# Altium footprint library BarelangRobotics.PcbLib: 67 footprints (part 1 of 5)
Each footprint in its own frame and in the unit in brackets; x right, y up, seen from the top. Pads: shape width x height; smd on the part's side, far side on the other; paste and mask are expansions set on the pad; w line width, h text height; cw(c..) or ccw(c..) is an arc to the next point about the centre after c.
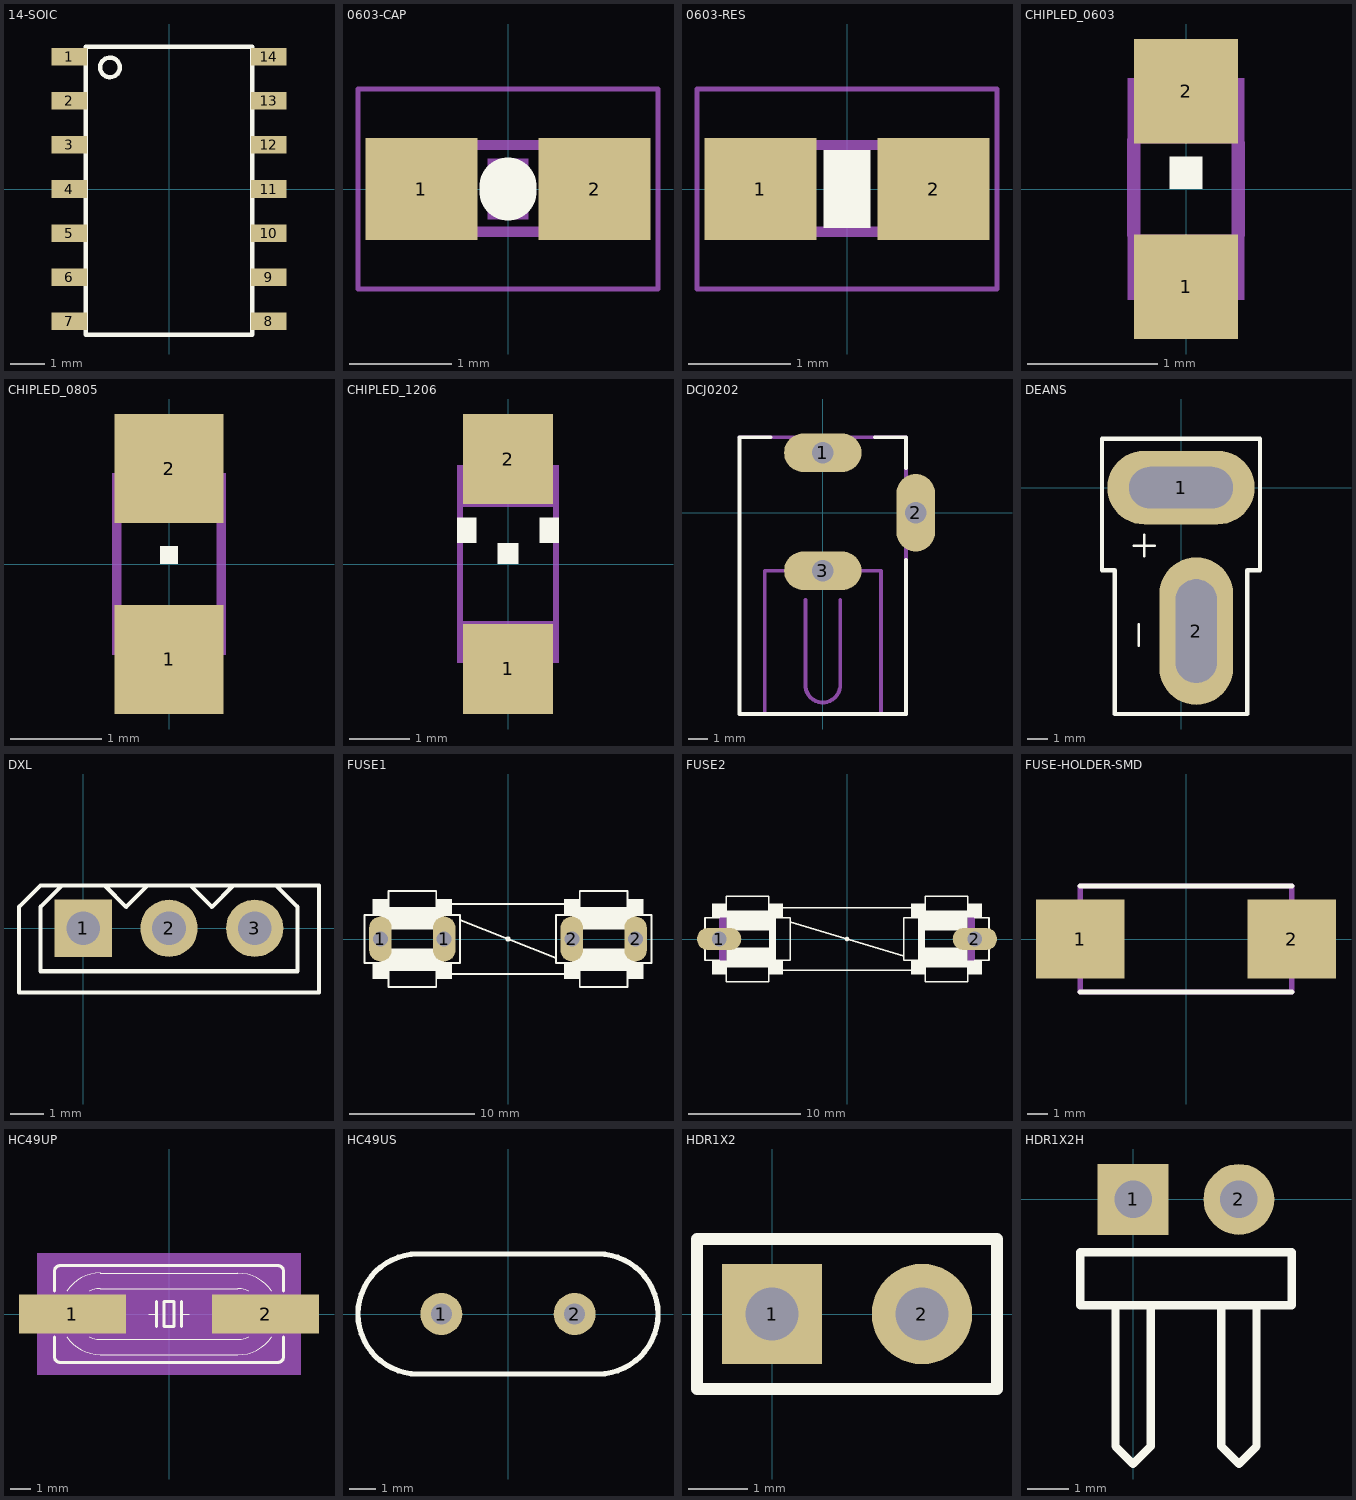
[diagram p0: the footprints below, top view; thin cyan lines are the x and y axes]

## 14-SOIC [mil]
pads (14):
  rect 40x20 smd: 1(-113.19,150) 2(-113.19,100) 3(-113.19,50) 4(-113.19,0) 5(-113.19,-50) 6(-113.19,-100) 7(-113.19,-150) 8(113.19,-150) 9(113.19,-100) 10(113.19,-50) 11(113.19,0) 12(113.19,50) 13(113.19,100) 14(113.19,150)
Top Overlay:
  circle w5: c-66.93,137.8 r11.14
  lines w5: -94.49,-165.35 -94.49,161.42 94.49,161.42 94.49,-165.35 -94.49,-165.35

## 0603-CAP [mm]
pads (2):
  rect 1.1x1 smd: 1(-0.85,0) 2(0.85,0)
Top Overlay:
  lines w0.559: 0,-0.03 0,0.03
Mechanical 6:
  rectangle: -0.2,-0.3 0.2,0.3
Mechanical 16:
  rectangle: -0.838,-0.47 -0.338,0.48
  rectangle: 0.33,-0.47 0.83,0.48
  lines w0.102: -0.356,-0.419 0.356,-0.419 ; -0.356,0.432 0.356,0.432
Mechanical 27:
  lines w0.051: -1.473,-0.983 1.473,-0.983 1.473,0.983 -1.473,0.983 -1.473,-0.983

## 0603-RES [mm]
pads (2):
  rect 1.1x1 smd: 1(-0.85,0) 2(0.85,0)
Top Overlay:
  rectangle: -0.229,-0.381 0.229,0.381
Mechanical 6:
  rectangle: -0.2,-0.3 0.2,0.3
Mechanical 16:
  rectangle: 0.33,-0.47 0.83,0.48
  rectangle: -0.838,-0.47 -0.338,0.48
  lines w0.102: -0.356,-0.419 0.356,-0.419 ; -0.356,0.432 0.356,0.432
Mechanical 27:
  lines w0.051: -1.473,-0.983 -1.473,0.983 1.473,0.983 1.473,-0.983 -1.473,-0.983

## CHIPLED_0603 [mil]
pads (2):
  rect 31.5x31.5 smd: 1(0,-29.53) 2(0,29.53)
Top Overlay:
  rectangle: -4.92,0 4.92,9.84
Mechanical 16:
  circle w2: c-13.78,24.61 r2.95
  rectangle: 6.89,-25.59 10.83,-21.65
  rectangle: -10.83,-25.59 -6.89,-21.65
  rectangle: -10.83,-22.64 10.83,-13.78
  rectangle: 9.84,-33.46 17.72,-13.78
  rectangle: -17.72,-33.46 -9.84,-13.78
  rectangle: -17.72,13.78 17.72,22.64
  rectangle: 9.84,21.65 17.72,33.46
  rectangle: -17.72,13.78 -15.75,28.54
  rectangle: -10.83,21.65 -8.86,23.62
  rectangle: -17.72,27.56 -9.84,33.46
  lines w2: -10.83,-32.48 cw(c0,-32.48) 10.83,-32.48
  lines w4: -15.75,-13.78 -15.75,14.76 ; -11.81,32.48 ccw(c0,32.48) 11.81,32.48 ; 15.75,-13.78 15.75,13.78

## CHIPLED_0805 [mil]
pads (2):
  rect 47.24x47.24 smd: 1(0,-41.34) 2(0,41.34)
Top Overlay:
  rectangle: -3.94,0 3.94,7.87
Mechanical 16:
  circle w4: c-17.72,33.46 r4.06
  rectangle: 11.81,19.69 24.61,39.37
  rectangle: -12.8,19.69 -6.89,29.53
  rectangle: 6.89,19.69 12.8,29.53
  rectangle: -7.87,19.69 7.87,26.57
  rectangle: 11.81,-39.37 24.61,-19.69
  rectangle: -24.61,-39.37 -11.81,-19.69
  rectangle: 6.89,-29.53 12.8,-19.69
  rectangle: -12.8,-29.53 -6.89,-19.69
  rectangle: -7.87,-26.57 7.87,-19.69
  rectangle: -23.62,19.69 -11.81,31.5
  rectangle: -24.61,36.42 -15.75,39.37
  lines w4: -22.64,-19.69 -22.64,36.42 ; -13.78,-39.37 cw(c0,-39.37) 13.78,-39.37 ; -13.78,39.37 ccw(c0,39.37) 13.78,39.37 ; 22.64,-20.67 22.64,20.67

## CHIPLED_1206 [mil]
pads (2):
  rect 59.06x59.06 smd: 1(0,-68.9) 2(0,68.9)
Top Overlay:
  rectangle: -33.46,13.78 -20.67,30.51
  rectangle: 20.67,13.78 33.46,30.51
  rectangle: -6.89,0 6.89,13.78
Mechanical 16:
  circle w4: c-21.65,56.1 r3.94
  rectangle: -33.46,60.04 -13.78,64.96
  rectangle: -33.46,48.23 -24.61,61.02
  rectangle: -17.72,48.23 -12.8,57.09
  rectangle: -25.59,48.23 -8.86,53.15
  rectangle: 13.78,51.18 33.46,64.96
  rectangle: 9.84,48.23 33.46,53.15
  rectangle: -33.46,37.4 33.46,49.21
  rectangle: -33.46,-64.96 33.46,-37.4
  lines w4: -31.5,-37.4 -31.5,37.4 ; -15.75,63.98 ccw(c0,63.98) 15.75,63.98 ; 31.5,-37.4 31.5,37.4

## DCJ0202 [mm]
pads (3):
  oval 4x2 hole 1.1: 1(0,3.1) 3(0,-3)
  oval 2x4 hole 1.1: 2(4.8,0)
Top Overlay:
  lines w0.203: -2.7,3.9 -4.3,3.9 -4.3,-10.4 4.3,-10.4 4.3,-2.45 ; 2.7,3.9 4.3,3.9 4.3,2.3
Mechanical 11:
  lines w0: -1.65,2.6 1.65,2.6 1.65,3.6 -1.65,3.6 -1.65,2.6 ; -1.4,-3.5 1.4,-3.5 1.4,-2.5 -1.4,-2.5 -1.4,-3.5 ; 4.3,-1.4 4.3,1.4 5.3,1.4 5.3,-1.4 4.3,-1.4
Mechanical 16:
  lines w0.203: -4.3,3.9 4.3,3.9 4.3,-10.4 ; -3,-10.275 -3,-3 3,-3 3,-10.3 ; -0.9,-4.5 -0.9,-9 ccw(c0,-8.894) 0.9,-9 0.9,-4.5

## DEANS [mil]
pads (2):
  oval 280x140 hole 78.74 slot 196.85 at 0 deg: 1(0,0)
  oval 140x280 hole 78.74 slot 196.85 at 90 deg: 2(29,-272.5)
Top Overlay:
  lines w5: -90,-110 -50,-110 ; -80,-300 -80,-260 ; -70,-130 -70,-90
  lines w8: -150,-157 -126,-157 -126,-430 126,-430 126,-157 150,-157 150,93 -150,93 -150,-157
Mechanical 1:
  lines w5: -112,-27 -112,27 112,27 112,-27 -112,-27 ; 2,-384 56,-384 56,-160 2,-160 2,-384

## DXL [mm]
pads (3):
  rect 1.7x1.7 hole 1: 1(0,0)
  round 1.7 hole 1: 2(2.54,0) 3(5.08,0)
Top Overlay:
  lines w0.127: -0.635,1.27 0.635,1.27 ; -0.635,1.27 -1.27,1.27 -1.905,0.635 -1.905,-1.905 6.985,-1.905 6.985,1.27 5.715,1.27 ; -0.635,1.27 -1.27,0.635 -1.27,-1.27 6.35,-1.27 6.35,0.635 5.715,1.27 ; 0.635,1.27 1.905,1.27 ; 0.635,1.27 1.27,0.635 1.905,1.27 ; 1.905,1.27 3.175,1.27 ; 3.175,1.27 4.445,1.27 ; 3.175,1.27 3.81,0.635 4.445,1.27 ; 4.445,1.27 5.715,1.27

## FUSE1 [mil]
pads (4):
  oval 70.5x141 hole 47: 1(-400,0) 1(-200,0) 2(200,0) 2(400,0)
Top Overlay:
  circle w6: c0,0 r5
  rectangle: 225,-100 375,-30
  rectangle: 225,30 375,100
  rectangle: 375,-100 400,100
  rectangle: 375,-125 425,-75
  rectangle: 375,75 425,125
  rectangle: 200,-100 225,100
  rectangle: 175,-125 225,-75
  rectangle: 175,75 225,125
  rectangle: -375,-100 -225,-30
  rectangle: -375,30 -225,100
  rectangle: -225,-100 -200,100
  rectangle: -225,-125 -175,-75
  rectangle: -225,75 -175,125
  rectangle: -400,-100 -375,100
  rectangle: -425,-125 -375,-75
  rectangle: -425,75 -375,125
  lines w6: -400,-75 -450,-75 -450,75 -400,75 ; -375,-100 -375,-150 -225,-150 -225,-100 ; -375,100 -375,150 -225,150 -225,100 ; -200,-75 -150,-75 -150,60 ; -200,75 -150,75 -150,60 ; -175,-110 175,-110 ; -175,110 175,110 ; 200,-75 150,-75 150,-60 ; 200,75 150,75 150,-60 ; 225,-100 225,-150 375,-150 375,-100 ; 225,100 225,150 375,150 375,100 ; 400,-75 450,-75 450,75 400,75 ; -150,60 150,-60

## FUSE2 [mil]
pads (2):
  oval 156x78 hole 52: 1(-450,0) 2(450,0)
Top Overlay:
  circle w6: c0,0 r5
  rectangle: 275,-100 425,-30
  rectangle: 275,30 425,100
  rectangle: 425,-125 475,-75
  rectangle: 425,75 475,125
  rectangle: 250,-100 275,100
  rectangle: 225,-125 275,-75
  rectangle: 225,75 275,125
  rectangle: -425,-100 -275,-30
  rectangle: -425,30 -275,100
  rectangle: -275,-100 -250,100
  rectangle: -275,-125 -225,-75
  rectangle: -275,75 -225,125
  rectangle: -475,-125 -425,-75
  rectangle: -475,75 -425,125
  lines w6: -450,-75 -500,-75 -500,75 -450,75 ; -425,-100 -425,-150 -275,-150 -275,-100 ; -425,100 -425,150 -275,150 -275,100 ; -250,-75 -200,-75 -200,60 ; -250,75 -200,75 -200,60 ; -225,-110 225,-110 ; -225,110 225,110 ; 250,-75 200,-75 200,-60 ; 250,75 200,75 200,-60 ; 275,-100 275,-150 425,-150 425,-100 ; 275,100 275,150 425,150 425,100 ; 450,-75 500,-75 500,75 450,75 ; -200,60 200,-60
Mechanical 16:
  rectangle: 425,-100 450,100
  rectangle: -450,-100 -425,100

## FUSE-HOLDER-SMD [mm]
pads (2):
  rect 4.24x3.81 smd: 1(-5.08,0) 2(5.08,0)
Top Overlay:
  lines w0.254: -5.08,-2.54 5.08,-2.54 ; -5.08,2.54 5.08,2.54
Mechanical 16:
  lines w0.254: -5.08,-2.54 -5.08,2.54 5.08,2.54 5.08,-2.54 -5.08,-2.54

## HC49UP [mil]
pads (2):
  rect 210x76 smd: 1(-190,0) 2(190,0)
Top Overlay:
  lines w2: -201.15,-45 ccw(c-135,0) -135,-80 135,-80 ccw(c135.42,0.81) 202,-45 ; -201.15,45 cw(c-134.06,0.5) -135,81 ; -156.8,-45 ccw(c-135,0) -135,-50 135,-50 ccw(c135.1,0.45) 157,-45 ; -156.8,45 cw(c-135,0) -135,50 135,50 cw(c135.1,-0.45) 157,45 ; -135,80 135,80 cw(c135.43,-0.81) 202,45 ; -40,0 -25,0 ; 25,0 40,0
  lines w6: -225,-45 -225,-85 ccw(c-215,-85) -215,-95 215,-95 ccw(c215,-85) 225,-85 225,-45 ; -225,45 -225,85 cw(c-215,85) -215,95 215,95 cw(c215,85) 225,85 225,45 ; -25,-25 -25,0 -25,25 ; 25,-25 25,0 25,25 ; -10,-25 10,-25 10,25 -10,25 -10,-25
Mechanical 10:
  rectangle: -260,-120 260,120
Mechanical 16:
  lines w2: -201.15,-45 cw(c-135,0) -201.15,45 ; -156.8,-45 cw(c-135,0) -156.8,45 ; 157,-45 ccw(c135.2,0) 157,45 ; 202,-45 ccw(c135.85,0) 202,45
  lines w6: -225,-45 -225,-15 ; -225,45 -225,15 ; 225,-45 225,45 ; 225,-15 255,-15 255,15 225,15 ; -225,-15 -255,-15 -255,15 -225,15 ; -225,-15 -225,15

## HC49US [mm]
pads (2):
  round 1.6 hole 0.8: 1(-2.54,0) 2(2.54,0)
Top Overlay:
  lines w0.203: -3.429,-2.286 cw(c-3.429,0) -3.429,2.286 3.429,2.286 cw(c3.429,0) 3.429,-2.286 -3.429,-2.286
3D body "HC49S.STEP": height 3.63, standoff -1.97, extent -5.551,-2.325 5.621,2.348

## HDR1X2 [mm] "Connector; Header; 2 Position"
pads (2):
  rect 1.7x1.7 hole 0.9: 1(0,0)
  round 1.7 hole 0.9: 2(2.54,0)
Top Overlay:
  lines w0.2: -1.27,-1.27 3.81,-1.27 3.81,1.27 -1.27,1.27 -1.27,-1.27

## HDR1X2H [mm] "Connector; Header; 2 Position; Right Angle"
pads (2):
  rect 1.7x1.7 hole 0.9: 1(0,0)
  round 1.7 hole 0.9: 2(2.54,0)
Top Overlay:
  lines w0.2: -0.423,-2.54 -0.423,-5.927 0,-6.35 0.423,-5.927 0.423,-2.54 ; 2.117,-2.54 2.117,-5.927 2.54,-6.35 2.963,-5.927 2.963,-2.54 ; -1.27,-2.54 3.81,-2.54 3.81,-1.27 -1.27,-1.27 -1.27,-2.54